# EAGLE library part I__4516 (library ..SMD)
Binary up down COUNTER
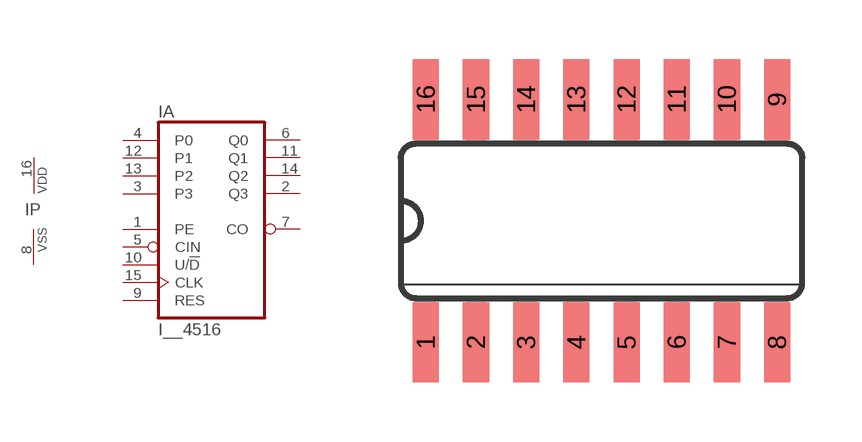
[diagram p103: symbol with the pads of SO16; footprint SO16]

Designator prefix I; gates A=4516 P=PWRN

## I__4516D  [SO16]
1  A:PE  in
2  A:Q3  out
3  A:P3  in
4  A:P0  in
5  A:CIN  in
6  A:Q0  out
7  A:CO  out
8  P:VSS  pwr
9  A:RES  in
10  A:U/!D  in
11  A:Q1  out
12  A:P1  in
13  A:P2  in
14  A:Q2  out
15  A:CLK  in
16  P:VDD  pwr

## Footprint SO16 (pad centres in mm)
Small Outline Package 16
smd 0.66 x 2.032: 1 -4.445,-3.073; 2 -3.175,-3.073; 3 -1.905,-3.073; 4 -0.635,-3.073; 5 0.635,-3.073; 6 1.905,-3.073; 7 3.175,-3.073; 8 4.445,-3.073; 9 4.445,3.073; 10 3.175,3.073; 11 1.905,3.073; 12 0.635,3.073; 13 -0.635,3.073; 14 -1.905,3.073; 15 -3.175,3.073; 16 -4.445,3.073